# Altium schematic symbol library kmilo17pet-TI_BattMgmt.SchLib: 950 symbols (part 51 of 60)
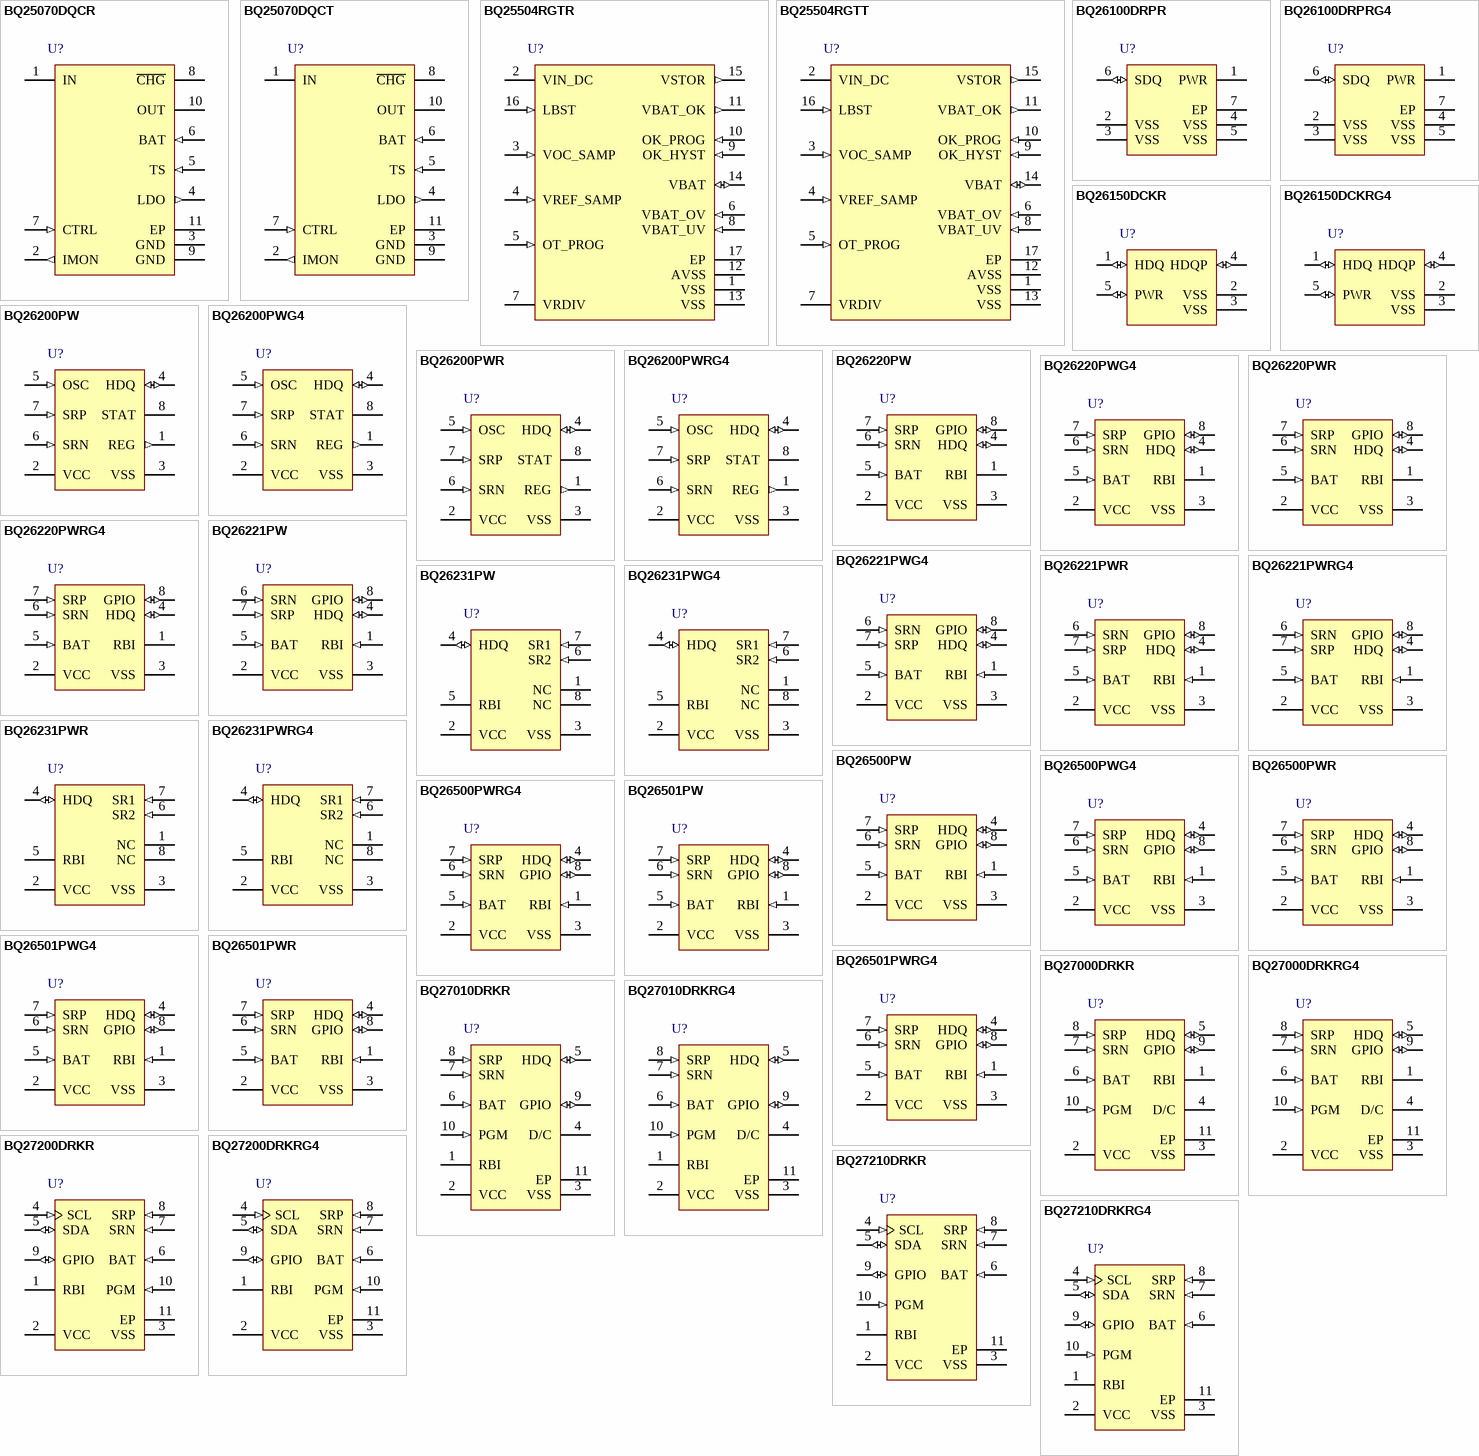
[diagram p84: symbols BQ25070DQCR to BQ27210DRKRG4]

## BQ25070DQCT
designator U?
1 A, Single Cell, Linear Charger for LiFePO4 Applications, -40 to 85 degC, 10-pin WSON (DQC), Green (RoHS & no Sb/Br); PartNumber: BQ25070DQCT; Manufacturer: Texas Instruments; Lead Acid: N; SubFamily: Battery Charge Management; DatasheetVersion: SLUSA66; PackageVersion: revA, Jul-2008; PackageReference: DQC10-2400X840TP; PackageDescription: 10-Pin Plastic Small Outline No-Lead, 2 x 3 x 0.8 mm Body, 0.5 mm Pitch, Exposed Pad; Supplier 1: Digi-Key; Supplier Part Number 1: 296-29180-2-ND; Supplier Part Number 3: 296-29180-6-ND; Eco-Plan: Green (RoHS & no Sb/Br); Li-Ion: N; Li-Polymer: N; NiCd: N; NiMH: N; Over Voltage Protection: N; Mounting Technology: Surface Mount; ComponentLink1Description: Datasheet; ComponentLink1URL: http://www.ti.com/general/docs/lit/getliterature.tsp?genericPartNumber=BQ25070&fileType=pdf
footprint DQC10-2400X840TP (SON, 10-Leads, Body 2x3mm, Pitch 0.5mm, Thermal Pad 2.4x0.84mm)
pins: 1 IN (power) "Input power supply. IN is connected to the external DC supply (AC adapter or USB port). Bypass IN to GND with at least a 0.1uF ceramic capacitor.", 2 IMON (out) "Current monitoring output. Connect a 1kO resistor from IMON to GND to monitor the input current. The voltage at IMON ranges from 0V to 1V which corresponds to an input current from 0A to 1A.", 3 GND (power) "Ground terminal. Connect to the thermal pad and the ground plane of the circuit.", 4 LDO (out) "LDO output. LDO is regulated to 4.9V and drives up to 50mA. Bypass LDO to GND with a 0.1uF ceramic capacitor. LDO is enabled when VUVLO < VIN < VOVP.", 5 TS (in) "Battery pack NTC monitoring input. Connect a resistor divider from LDO to GND with TS connected to the center tap to set the charge temperature window. The battery pack NTC is connected in parallel with the bottom resistor (See Datasheet)", 6 BAT (in) "Battery connection output. BAT is the sense input for the battery. Connect BAT and OUT to the battery and bypass to GND with a 1uF ceramic capacitor.", 7 CTRL (in) "Single-input interface Input. Drive CTRL with pulses to enable/disable the device, enable/disable VIN-DPM, and select current limits. See the interface section for details on using the CTRL interface.", 8 ~{CHG} (hiz) "Charge status indicator open-drain output. C\H\G\ is pulled low while the device is charging the battery. C\H\G\ goes high impedance when the battery is fully charged.", 9 GND (power) "Ground terminal. Connect to the thermal pad and the ground plane of the circuit.", 10 OUT (power) "System output connection. Connect OUT and BAT together. Bypass the OUT and BAT connection to GND with a 1uF ceramic capacitor.", 11 EP (power) "There is an internal electrical connection between the exposed thermal pad and the GND pin of the device. The thermal pad must be connected to the same potential as the GND pin on the printed circuit board. Do not use the (See Datasheet)"

## BQ25504RGTR
designator U?
Ultra Low Power Boost Converter with Battery Management for Energy Harvester App, 0.13 V, -40 to 85 degC, 16-pin QFN (RGT), Green (RoHS & no Sb/Br); PartNumber: BQ25504RGTR; Manufacturer: Texas Instruments; Lead Acid: N; SubFamily: Battery Charge Management; Vin(Min)(V): 0.13; DatasheetVersion: SLUSAH0; PackageVersion: revH, Oct-2011; PackageReference: RGT16-1700X1700TP; PackageDescription: 16-Pin Plastic Quad Flat No-Lead, 3 x 3 mm Body, 0.5 mm Pitch, 1.7 x 1.7 mm Exposed Pad; Supplier 1: Digi-Key; Supplier Part Number 1: BQ25504RGTR-ND; Supplier Part Number 3: 595-BQ25504RGTR; Eco-Plan: Green (RoHS & no Sb/Br); Li-Ion: N; Li-Polymer: N; NiCd: N; NiMH: N; Over Voltage Protection: N; Mounting Technology: Surface Mount; Code_JEDEC: MO-220; ComponentLink1Description: Datasheet; ComponentLink1URL: http://www.ti.com/general/docs/lit/getliterature.tsp?genericPartNumber=BQ25504&fileType=pdf
footprint RGT16-1700X1700TP (QFN, 16-Leads, Body 3x3mm, Pitch 0.5mm, Thermal Pad 1.7x1.7mm, TI Recommended)
pins: 1 VSS (power) "Input General ground connection for the device", 2 VIN_DC (power) "DC voltage input from energy harvesters", 3 VOC_SAMP (in) "Sampling pin for MPPT network. To disable MPPT, connect to VSTOR", 4 VREF_SAMP (in) "Switched node for holding the reference set by resistors on VOC_SAMP for MPPT. When MPPT is disabled, input for reference voltage", 5 OT_PROG (in) "Digital Programming input for overtemperature threshold", 6 VBAT_OV (in) "Resistor divider input for over voltage threshold", 7 VRDIV (power) "Resistor divider biasing voltage.", 8 VBAT_UV (in) "Resistor divider input for under voltage threshold", 9 OK_HYST (in) "Resistor divider input for VBAT_OK hysteresis threshold", 10 OK_PROG (in) "Resistor divider input for VBAT_OK threshold", 11 VBAT_OK (out) "Digital battery good indicator referenced to VSTOR pin", 12 AVSS (power) "Signal ground connection for the device", 13 VSS (power) "General ground connection for the device", 14 VBAT (io) "Connection for storage elements", 15 VSTOR (out) "Connection for the system load, output of the boost converter", 16 LBST (in) "Inductor connection for the boost converter switching node", 17 EP "Exposed Thermal Pad"

## BQ25504RGTT
designator U?
Ultra Low Power Boost Converter with Battery Management for Energy Harvester App, 0.13 V, -40 to 85 degC, 16-pin QFN (RGT), Green (RoHS & no Sb/Br); PartNumber: BQ25504RGTT; Manufacturer: Texas Instruments; Lead Acid: N; SubFamily: Battery Charge Management; Vin(Min)(V): 0.13; DatasheetVersion: SLUSAH0; PackageVersion: revH, Oct-2011; PackageReference: RGT16-1700X1700TP; PackageDescription: 16-Pin Plastic Quad Flat No-Lead, 3 x 3 mm Body, 0.5 mm Pitch, 1.7 x 1.7 mm Exposed Pad; Supplier 1: Digi-Key; Supplier Part Number 1: 296-29741-2-ND; Supplier Part Number 3: 296-29741-6-ND; Eco-Plan: Green (RoHS & no Sb/Br); Li-Ion: N; Li-Polymer: N; NiCd: N; NiMH: N; Over Voltage Protection: N; Mounting Technology: Surface Mount; Code_JEDEC: MO-220; ComponentLink1Description: Datasheet; ComponentLink1URL: http://www.ti.com/general/docs/lit/getliterature.tsp?genericPartNumber=BQ25504&fileType=pdf
footprint RGT16-1700X1700TP (QFN, 16-Leads, Body 3x3mm, Pitch 0.5mm, Thermal Pad 1.7x1.7mm, TI Recommended)
footprint RGT16-1700X1700TP - UPDATE (QFN, 16-Leads, Body 3x3mm, Pitch 0.5mm, Thermal Pad 1.7x1.7mm, TI Recommended)
pins: 1 VSS (power) "Input General ground connection for the device", 2 VIN_DC (power) "DC voltage input from energy harvesters", 3 VOC_SAMP (in) "Sampling pin for MPPT network. To disable MPPT, connect to VSTOR", 4 VREF_SAMP (in) "Switched node for holding the reference set by resistors on VOC_SAMP for MPPT. When MPPT is disabled, input for reference voltage", 5 OT_PROG (in) "Digital Programming input for overtemperature threshold", 6 VBAT_OV (in) "Resistor divider input for over voltage threshold", 7 VRDIV (power) "Resistor divider biasing voltage.", 8 VBAT_UV (in) "Resistor divider input for under voltage threshold", 9 OK_HYST (in) "Resistor divider input for VBAT_OK hysteresis threshold", 10 OK_PROG (in) "Resistor divider input for VBAT_OK threshold", 11 VBAT_OK (out) "Digital battery good indicator referenced to VSTOR pin", 12 AVSS (power) "Signal ground connection for the device", 13 VSS (power) "General ground connection for the device", 14 VBAT (io) "Connection for storage elements", 15 VSTOR (out) "Connection for the system load, output of the boost converter", 16 LBST (in) "Inductor connection for the boost converter switching node", 17 EP "Exposed Thermal Pad"

## BQ26100DRPR
designator U?
SHA-1 / HMAC Based Security & Authentication IC with SDQ Interface, 2.5 V, -40 to 85 degC, 6-pin VSON (DRP), Green (RoHS & no Sb/Br); PartNumber: BQ26100DRPR; Manufacturer: Texas Instruments; Lead Acid: N; SubFamily: Battery Authentication; Vin(Min)(V): 2.5; DatasheetVersion: SLUS696A; PackageVersion: revE, Jun-2011; PackageReference: DRP6; PackageDescription: 6-Pin Plastic Small Outline No-Lead, 3 x 3 x 1 mm Body, 0.95 mm Pitch, Exposed Pad; Supplier 1: Digi-Key; Supplier Part Number 1: 296-20633-2-ND; Supplier Part Number 3: 296-20633-6-ND; Eco-Plan: Green (RoHS & no Sb/Br); Li-Ion: N; Li-Polymer: N; NiCd: N; NiMH: N; Over Voltage Protection: N; Mounting Technology: Surface Mount; ComponentLink1Description: Datasheet; ComponentLink1URL: http://www.ti.com/general/docs/lit/getliterature.tsp?genericPartNumber=BQ26100&fileType=pdf
footprint DRP6 (SON, 6-Leads, Body 3x3mm, Pitch 0.95mm, Thermal Pad 2.3x1.6mm)
pins: 1 PWR (power) "Power capacitor connection", 2 VSS (power) "Ground", 3 VSS (power) "Ground", 4 VSS (power) "Ground", 5 VSS (power) "Ground", 6 SDQ (io) "Single wire SDQ interface to host", 7 EP "Exposed pad"

## BQ26100DRPRG4
designator U?
SHA-1 / HMAC Based Security & Authentication IC with SDQ Interface, 2.5 V, -40 to 85 degC, 6-pin VSON (DRP), Green (RoHS & no Sb/Br); PartNumber: BQ26100DRPRG4; Manufacturer: Texas Instruments; Lead Acid: N; SubFamily: Battery Authentication; Vin(Min)(V): 2.5; DatasheetVersion: SLUS696A; PackageVersion: revE, Jun-2011; PackageReference: DRP6; PackageDescription: 6-Pin Plastic Small Outline No-Lead, 3 x 3 x 1 mm Body, 0.95 mm Pitch, Exposed Pad; Supplier 1: Digi-Key; Supplier Part Number 1: BQ26100DRPRG4-ND; Supplier Part Number 3: 595-BQ26100DRPRG4; Eco-Plan: Green (RoHS & no Sb/Br); Li-Ion: N; Li-Polymer: N; NiCd: N; NiMH: N; Over Voltage Protection: N; Mounting Technology: Surface Mount; ComponentLink1Description: Datasheet; ComponentLink1URL: http://www.ti.com/general/docs/lit/getliterature.tsp?genericPartNumber=BQ26100&fileType=pdf
footprint DRP6 (SON, 6-Leads, Body 3x3mm, Pitch 0.95mm, Thermal Pad 2.3x1.6mm)
pins: 1 PWR (power) "Power capacitor connection", 2 VSS (power) "Ground", 3 VSS (power) "Ground", 4 VSS (power) "Ground", 5 VSS (power) "Ground", 6 SDQ (io) "Single wire SDQ interface to host", 7 EP "Exposed pad"

## BQ26150DCKR
designator U?
Battery Pack Security & Authentication IC For Portable Applications (bqSECURE), 2.5 V, -20 to 70 degC, 5-pin SC70 (DCK), Green (RoHS & no Sb/Br); PartNumber: BQ26150DCKR; Manufacturer: Texas Instruments; Lead Acid: N; SubFamily: Battery Authentication; Vin(Min)(V): 2.5; DatasheetVersion: SLUS641B; PackageVersion: revG, Jan-2007; PackageReference: DCK5; PackageDescription: 5-Pin Plastic Small-Outline Package, 2 x 1.3 mm Body, 0.65 mm Pitch, 2.1 mm Lead Span; Supplier 1: Digi-Key; Supplier Part Number 1: 296-18601-2-ND; Supplier Part Number 3: 296-18601-6-ND; Eco-Plan: Green (RoHS & no Sb/Br); Li-Ion: N; Li-Polymer: N; NiCd: N; NiMH: N; Over Voltage Protection: N; Mounting Technology: Surface Mount; Code_JEDEC: MO-203-AA; ComponentLink1Description: Datasheet; ComponentLink1URL: http://www.ti.com/general/docs/lit/getliterature.tsp?genericPartNumber=BQ26150&fileType=pdf
footprint DCK5_N (SOT353, 5-Leads, Body 2x1.3mm, Pitch 0.65mm, Lead Span 2.1mm, IPC Medium Density)
footprint DCK5_L (SOT353, 5-Leads, Body 2x1.3mm, Pitch 0.65mm, Lead Span 2.1mm, IPC High Density)
footprint DCK5_M (SOT353, 5-Leads, Body 2x1.3mm, Pitch 0.65mm, Lead Span 2.1mm, IPC Low Density)
pins: 1 HDQ (io) "Single-wire HDQ interface to host", 2 VSS (power) "Ground", 3 VSS (power) "Ground", 4 HDQP (io) "Single-wire HDQ interface to 2nd HDQ device", 5 PWR (io) "Power capacitor"

## BQ26150DCKRG4
designator U?
Battery Pack Security & Authentication IC For Portable Applications (bqSECURE), 2.5 V, -20 to 70 degC, 5-pin SC70 (DCK), Green (RoHS & no Sb/Br); PartNumber: BQ26150DCKRG4; Manufacturer: Texas Instruments; Lead Acid: N; SubFamily: Battery Charge Management; Vin(Min)(V): 2.5; DatasheetVersion: SLUS641B; PackageVersion: revG, Jan-2007; PackageReference: DCK5; PackageDescription: 5-Pin Plastic Small-Outline Package, 2 x 1.3 mm Body, 0.65 mm Pitch, 2.1 mm Lead Span; Supplier 1: Digi-Key; Supplier Part Number 1: BQ26150DCKRG4-ND; Supplier Part Number 3: 595-BQ26150DCKRG4; Eco-Plan: Green (RoHS & no Sb/Br); Li-Ion: N; Li-Polymer: N; NiCd: N; NiMH: N; Over Voltage Protection: N; Mounting Technology: Surface Mount; Code_JEDEC: MO-203-AA; ComponentLink1Description: Datasheet; ComponentLink1URL: http://www.ti.com/general/docs/lit/getliterature.tsp?genericPartNumber=BQ26150&fileType=pdf
footprint DCK5_N (SOT353, 5-Leads, Body 2x1.3mm, Pitch 0.65mm, Lead Span 2.1mm, IPC Medium Density)
footprint DCK5_L (SOT353, 5-Leads, Body 2x1.3mm, Pitch 0.65mm, Lead Span 2.1mm, IPC High Density)
footprint DCK5_M (SOT353, 5-Leads, Body 2x1.3mm, Pitch 0.65mm, Lead Span 2.1mm, IPC Low Density)
pins: 1 HDQ (io) "Single-wire HDQ interface to host", 2 VSS (power) "Ground", 3 VSS (power) "Ground", 4 HDQP (io) "Single-wire HDQ interface to 2nd HDQ device", 5 PWR (io) "Power capacitor"

## BQ26200PW
designator U?
FLASH-Based Precision Multi-Chemistry Charge / Discharge Counter with 1-Wire I / F (HDQ), 0 to 70 degC, 8-pin TSSOP (PW), Green (RoHS & no Sb/Br); PartNumber: BQ26200PW; Manufacturer: Texas Instruments; Lead Acid: Y; Over Voltage Protection: N; SubFamily: Battery Fuel Gauge; DatasheetVersion: SLUS509A; PackageVersion: revG, Feb-2011; PackageReference: PW8; PackageDescription: 8-Pin Plastic Thin Small Outline Package 3 x 4.4 mm Body ,0.65 mm Pitch; Supplier 1: Digi-Key; Supplier Part Number 1: 296-12626-5-ND; Supplier Part Number 3: 595-BQ26200PW; Eco-Plan: Green (RoHS & no Sb/Br); Li-Ion: Y; Li-Polymer: Y; NiCd: Y; NiMH: Y; Mounting Technology: Surface Mount; Code_JEDEC: MO-153; ComponentLink1Description: Datasheet; ComponentLink1URL: http://www.ti.com/general/docs/lit/getliterature.tsp?genericPartNumber=BQ26200&fileType=pdf
footprint PW8_N (TSOP, 8-Leads, Body 3x4.4mm, Pitch 0.65mm, IPC Medium Density)
footprint PW8_L (TSOP, 8-Leads, Body 3x4.4mm, Pitch 0.65mm, IPC High Density)
footprint PW8_M (TSOP, 8-Leads, Body 3x4.4mm, Pitch 0.65mm, IPC Low Density)
pins: 1 REG (out) "Regulator output", 2 VCC (power) "Supply voltage", 3 VSS (power) "Ground", 4 HDQ (io) "Single-wire HDQ interface", 5 OSC (in) "Time base adjust for the oscillator", 6 SRN (in) "Current sense input 2", 7 SRP (in) "Current sense input 1", 8 STAT (oc) "Open-drain status output"

## BQ26200PWG4
designator U?
FLASH-Based Precision Multi-Chemistry Charge / Discharge Counter with 1-Wire I / F (HDQ), 0 to 70 degC, 8-pin TSSOP (PW), Green (RoHS & no Sb/Br); PartNumber: BQ26200PWG4; Manufacturer: Texas Instruments; Lead Acid: Y; Over Voltage Protection: N; SubFamily: Battery Fuel Gauge; DatasheetVersion: SLUS509A; PackageVersion: revG, Feb-2011; PackageReference: PW8; PackageDescription: 8-Pin Plastic Thin Small Outline Package 3 x 4.4 mm Body ,0.65 mm Pitch; Supplier 1: Digi-Key; Supplier Part Number 1: BQ26200PWG4-ND; Supplier Part Number 3: 595-BQ26200PWG4; Eco-Plan: Green (RoHS & no Sb/Br); Li-Ion: Y; Li-Polymer: Y; NiCd: Y; NiMH: Y; Mounting Technology: Surface Mount; Code_JEDEC: MO-153; ComponentLink1Description: Datasheet; ComponentLink1URL: http://www.ti.com/general/docs/lit/getliterature.tsp?genericPartNumber=BQ26200&fileType=pdf
footprint PW8_N (TSOP, 8-Leads, Body 3x4.4mm, Pitch 0.65mm, IPC Medium Density)
footprint PW8_L (TSOP, 8-Leads, Body 3x4.4mm, Pitch 0.65mm, IPC High Density)
footprint PW8_M (TSOP, 8-Leads, Body 3x4.4mm, Pitch 0.65mm, IPC Low Density)
pins: 1 REG (out) "Regulator output", 2 VCC (power) "Supply voltage", 3 VSS (power) "Ground", 4 HDQ (io) "Single-wire HDQ interface", 5 OSC (in) "Time base adjust for the oscillator", 6 SRN (in) "Current sense input 2", 7 SRP (in) "Current sense input 1", 8 STAT (oc) "Open-drain status output"

## BQ26200PWR
designator U?
FLASH-Based Precision Multi-Chemistry Charge / Discharge Counter with 1-Wire I / F (HDQ), 0 to 70 degC, 8-pin TSSOP (PW), Green (RoHS & no Sb/Br); PartNumber: BQ26200PWR; Manufacturer: Texas Instruments; Lead Acid: Y; Over Voltage Protection: N; SubFamily: Battery Fuel Gauge; DatasheetVersion: SLUS509A; PackageVersion: revG, Feb-2011; PackageReference: PW8; PackageDescription: 8-Pin Plastic Thin Small Outline Package 3 x 4.4 mm Body ,0.65 mm Pitch; Supplier 1: Digi-Key; Supplier Part Number 1: BQ26200PWR-ND; Supplier Part Number 3: 595-BQ26200PWR; Eco-Plan: Green (RoHS & no Sb/Br); Li-Ion: Y; Li-Polymer: Y; NiCd: Y; NiMH: Y; Mounting Technology: Surface Mount; Code_JEDEC: MO-153; ComponentLink1Description: Datasheet; ComponentLink1URL: http://www.ti.com/general/docs/lit/getliterature.tsp?genericPartNumber=BQ26200&fileType=pdf
footprint PW8_N (TSOP, 8-Leads, Body 3x4.4mm, Pitch 0.65mm, IPC Medium Density)
footprint PW8_L (TSOP, 8-Leads, Body 3x4.4mm, Pitch 0.65mm, IPC High Density)
footprint PW8_M (TSOP, 8-Leads, Body 3x4.4mm, Pitch 0.65mm, IPC Low Density)
pins: 1 REG (out) "Regulator output", 2 VCC (power) "Supply voltage", 3 VSS (power) "Ground", 4 HDQ (io) "Single-wire HDQ interface", 5 OSC (in) "Time base adjust for the oscillator", 6 SRN (in) "Current sense input 2", 7 SRP (in) "Current sense input 1", 8 STAT (oc) "Open-drain status output"

## BQ26200PWRG4
designator U?
FLASH-Based Precision Multi-Chemistry Charge / Discharge Counter with 1-Wire I / F (HDQ), 0 to 70 degC, 8-pin TSSOP (PW), Green (RoHS & no Sb/Br); PartNumber: BQ26200PWRG4; Manufacturer: Texas Instruments; Lead Acid: Y; Over Voltage Protection: N; SubFamily: Battery Fuel Gauge; DatasheetVersion: SLUS509A; PackageVersion: revG, Feb-2011; PackageReference: PW8; PackageDescription: 8-Pin Plastic Thin Small Outline Package 3 x 4.4 mm Body ,0.65 mm Pitch; Supplier 1: Digi-Key; Supplier Part Number 1: BQ26200PWRG4-ND; Supplier Part Number 3: 595-BQ26200PWRG4; Eco-Plan: Green (RoHS & no Sb/Br); Li-Ion: Y; Li-Polymer: Y; NiCd: Y; NiMH: Y; Mounting Technology: Surface Mount; Code_JEDEC: MO-153; ComponentLink1Description: Datasheet; ComponentLink1URL: http://www.ti.com/general/docs/lit/getliterature.tsp?genericPartNumber=BQ26200&fileType=pdf
footprint PW8_N (TSOP, 8-Leads, Body 3x4.4mm, Pitch 0.65mm, IPC Medium Density)
footprint PW8_L (TSOP, 8-Leads, Body 3x4.4mm, Pitch 0.65mm, IPC High Density)
footprint PW8_M (TSOP, 8-Leads, Body 3x4.4mm, Pitch 0.65mm, IPC Low Density)
pins: 1 REG (out) "Regulator output", 2 VCC (power) "Supply voltage", 3 VSS (power) "Ground", 4 HDQ (io) "Single-wire HDQ interface", 5 OSC (in) "Time base adjust for the oscillator", 6 SRN (in) "Current sense input 2", 7 SRP (in) "Current sense input 1", 8 STAT (oc) "Open-drain status output"

## BQ26220PW
designator U?
FLASH-Based Precision Multi-Chemistry Charge / Discharge Counter with Voltage Measurement and HDQ Comm, -20 to 70 degC, 8-pin TSSOP (PW), Green (RoHS & no Sb/Br); PartNumber: BQ26220PW; Manufacturer: Texas Instruments; Lead Acid: Y; Over Voltage Protection: N; SubFamily: Battery Fuel Gauge; DatasheetVersion: SLUS521B; PackageVersion: revG, Feb-2011; PackageReference: PW8; PackageDescription: 8-Pin Plastic Thin Small Outline Package 3 x 4.4 mm Body ,0.65 mm Pitch; Supplier 1: Digi-Key; Supplier Part Number 1: 296-14004-5-ND; Supplier Part Number 3: 595-BQ26220PW; Eco-Plan: Green (RoHS & no Sb/Br); Li-Ion: Y; Li-Polymer: Y; NiCd: Y; NiMH: Y; Mounting Technology: Surface Mount; Code_JEDEC: MO-153; ComponentLink1Description: Datasheet; ComponentLink1URL: http://www.ti.com/general/docs/lit/getliterature.tsp?genericPartNumber=BQ26220&fileType=pdf
footprint PW8_N (TSOP, 8-Leads, Body 3x4.4mm, Pitch 0.65mm, IPC Medium Density)
footprint PW8_L (TSOP, 8-Leads, Body 3x4.4mm, Pitch 0.65mm, IPC High Density)
footprint PW8_M (TSOP, 8-Leads, Body 3x4.4mm, Pitch 0.65mm, IPC Low Density)
pins: 1 RBI (power) "Register backup input. The RBI input pin is used with a storage capacitor or external supply to provide backup potential to the internal RAM and registers while VCC is < V(POR).", 2 VCC (power) "Supply voltage", 3 VSS (power) "Ground", 4 HDQ (io) "Single-wire HDQ interface. HDQ is a single-wire serial communications interface port. This bidirectional input/output communicates the register information to the host.", 5 BAT (in) "Battery voltage sense input. This pin is used for sensing and measuring the battery voltage.", 6 SRN (in) "Current sense input 2. The bq26220 interprets charge and discharge activity by monitoring and integrating the voltage drop, VSR, across pins SRP and SRN. The SRN input connects to the sense resistor and the negative terminal (See Datasheet)", 7 SRP (in) "Current sense input 1. The bq26220 interprets charge and discharge activity by monitoring and integrating the voltage drop, VSR, across pins SRP and SRN. The SRP input connects to the sense resistor and the negative terminal (See Datasheet)", 8 GPIO (io) "General-purpose input/output pin. GPIO is a general-purpose programmable input or output port whose state is controlled via the HDQ serial communications interface."

## BQ26220PWG4
designator U?
FLASH-Based Precision Multi-Chemistry Charge / Discharge Counter with Voltage Measurement and HDQ Comm, -20 to 70 degC, 8-pin TSSOP (PW), Green (RoHS & no Sb/Br); PartNumber: BQ26220PWG4; Manufacturer: Texas Instruments; Lead Acid: Y; Over Voltage Protection: N; SubFamily: Battery Fuel Gauge; DatasheetVersion: SLUS521B; PackageVersion: revG, Feb-2011; PackageReference: PW8; PackageDescription: 8-Pin Plastic Thin Small Outline Package 3 x 4.4 mm Body ,0.65 mm Pitch; Supplier 1: Digi-Key; Supplier Part Number 1: BQ26220PWG4-ND; Supplier Part Number 3: 595-BQ26220PWG4; Eco-Plan: Green (RoHS & no Sb/Br); Li-Ion: Y; Li-Polymer: Y; NiCd: Y; NiMH: Y; Mounting Technology: Surface Mount; Code_JEDEC: MO-153; ComponentLink1Description: Datasheet; ComponentLink1URL: http://www.ti.com/general/docs/lit/getliterature.tsp?genericPartNumber=BQ26220&fileType=pdf
footprint PW8_N (TSOP, 8-Leads, Body 3x4.4mm, Pitch 0.65mm, IPC Medium Density)
footprint PW8_L (TSOP, 8-Leads, Body 3x4.4mm, Pitch 0.65mm, IPC High Density)
footprint PW8_M (TSOP, 8-Leads, Body 3x4.4mm, Pitch 0.65mm, IPC Low Density)
pins: 1 RBI (power) "Register backup input. The RBI input pin is used with a storage capacitor or external supply to provide backup potential to the internal RAM and registers while VCC is < V(POR).", 2 VCC (power) "Supply voltage", 3 VSS (power) "Ground", 4 HDQ (io) "Single-wire HDQ interface. HDQ is a single-wire serial communications interface port. This bidirectional input/output communicates the register information to the host.", 5 BAT (in) "Battery voltage sense input. This pin is used for sensing and measuring the battery voltage.", 6 SRN (in) "Current sense input 2. The bq26220 interprets charge and discharge activity by monitoring and integrating the voltage drop, VSR, across pins SRP and SRN. The SRN input connects to the sense resistor and the negative terminal (See Datasheet)", 7 SRP (in) "Current sense input 1. The bq26220 interprets charge and discharge activity by monitoring and integrating the voltage drop, VSR, across pins SRP and SRN. The SRP input connects to the sense resistor and the negative terminal (See Datasheet)", 8 GPIO (io) "General-purpose input/output pin. GPIO is a general-purpose programmable input or output port whose state is controlled via the HDQ serial communications interface."

## BQ26220PWR
designator U?
FLASH-Based Precision Multi-Chemistry Charge / Discharge Counter with Voltage Measurement and HDQ Comm, -20 to 70 degC, 8-pin TSSOP (PW), Green (RoHS & no Sb/Br); PartNumber: BQ26220PWR; Manufacturer: Texas Instruments; Lead Acid: Y; Over Voltage Protection: N; SubFamily: Battery Fuel Gauge; DatasheetVersion: SLUS521B; PackageVersion: revG, Feb-2011; PackageReference: PW8; PackageDescription: 8-Pin Plastic Thin Small Outline Package 3 x 4.4 mm Body ,0.65 mm Pitch; Supplier 1: Digi-Key; Supplier Part Number 1: BQ26220PWR-ND; Supplier Part Number 3: 595-BQ26220PWR; Eco-Plan: Green (RoHS & no Sb/Br); Li-Ion: Y; Li-Polymer: Y; NiCd: Y; NiMH: Y; Mounting Technology: Surface Mount; Code_JEDEC: MO-153; ComponentLink1Description: Datasheet; ComponentLink1URL: http://www.ti.com/general/docs/lit/getliterature.tsp?genericPartNumber=BQ26220&fileType=pdf
footprint PW8_N (TSOP, 8-Leads, Body 3x4.4mm, Pitch 0.65mm, IPC Medium Density)
footprint PW8_L (TSOP, 8-Leads, Body 3x4.4mm, Pitch 0.65mm, IPC High Density)
footprint PW8_M (TSOP, 8-Leads, Body 3x4.4mm, Pitch 0.65mm, IPC Low Density)
pins: 1 RBI (power) "Register backup input. The RBI input pin is used with a storage capacitor or external supply to provide backup potential to the internal RAM and registers while VCC is < V(POR).", 2 VCC (power) "Supply voltage", 3 VSS (power) "Ground", 4 HDQ (io) "Single-wire HDQ interface. HDQ is a single-wire serial communications interface port. This bidirectional input/output communicates the register information to the host.", 5 BAT (in) "Battery voltage sense input. This pin is used for sensing and measuring the battery voltage.", 6 SRN (in) "Current sense input 2. The bq26220 interprets charge and discharge activity by monitoring and integrating the voltage drop, VSR, across pins SRP and SRN. The SRN input connects to the sense resistor and the negative terminal (See Datasheet)", 7 SRP (in) "Current sense input 1. The bq26220 interprets charge and discharge activity by monitoring and integrating the voltage drop, VSR, across pins SRP and SRN. The SRP input connects to the sense resistor and the negative terminal (See Datasheet)", 8 GPIO (io) "General-purpose input/output pin. GPIO is a general-purpose programmable input or output port whose state is controlled via the HDQ serial communications interface."

## BQ26220PWRG4
designator U?
FLASH-Based Precision Multi-Chemistry Charge / Discharge Counter with Voltage Measurement and HDQ Comm, -20 to 70 degC, 8-pin TSSOP (PW), Green (RoHS & no Sb/Br); PartNumber: BQ26220PWRG4; Manufacturer: Texas Instruments; Lead Acid: Y; Over Voltage Protection: N; SubFamily: Battery Fuel Gauge; DatasheetVersion: SLUS521B; PackageVersion: revG, Feb-2011; PackageReference: PW8; PackageDescription: 8-Pin Plastic Thin Small Outline Package 3 x 4.4 mm Body ,0.65 mm Pitch; Supplier 1: Digi-Key; Supplier Part Number 1: BQ26220PWRG4-ND; Supplier Part Number 3: 595-BQ26220PWRG4; Eco-Plan: Green (RoHS & no Sb/Br); Li-Ion: Y; Li-Polymer: Y; NiCd: Y; NiMH: Y; Mounting Technology: Surface Mount; Code_JEDEC: MO-153; ComponentLink1Description: Datasheet; ComponentLink1URL: http://www.ti.com/general/docs/lit/getliterature.tsp?genericPartNumber=BQ26220&fileType=pdf
footprint PW8_N (TSOP, 8-Leads, Body 3x4.4mm, Pitch 0.65mm, IPC Medium Density)
footprint PW8_L (TSOP, 8-Leads, Body 3x4.4mm, Pitch 0.65mm, IPC High Density)
footprint PW8_M (TSOP, 8-Leads, Body 3x4.4mm, Pitch 0.65mm, IPC Low Density)
pins: 1 RBI (power) "Register backup input. The RBI input pin is used with a storage capacitor or external supply to provide backup potential to the internal RAM and registers while VCC is < V(POR).", 2 VCC (power) "Supply voltage", 3 VSS (power) "Ground", 4 HDQ (io) "Single-wire HDQ interface. HDQ is a single-wire serial communications interface port. This bidirectional input/output communicates the register information to the host.", 5 BAT (in) "Battery voltage sense input. This pin is used for sensing and measuring the battery voltage.", 6 SRN (in) "Current sense input 2. The bq26220 interprets charge and discharge activity by monitoring and integrating the voltage drop, VSR, across pins SRP and SRN. The SRN input connects to the sense resistor and the negative terminal (See Datasheet)", 7 SRP (in) "Current sense input 1. The bq26220 interprets charge and discharge activity by monitoring and integrating the voltage drop, VSR, across pins SRP and SRN. The SRP input connects to the sense resistor and the negative terminal (See Datasheet)", 8 GPIO (io) "General-purpose input/output pin. GPIO is a general-purpose programmable input or output port whose state is controlled via the HDQ serial communications interface."

## BQ26221PW
designator U?
FLASH-Based Precision Multi-Chemistry Charge / Discharge Counter with Voltage Measurement & HDQ / OMAP Comm, -20 to 70 degC, 8-pin TSSOP (PW), Green (RoHS & no Sb/Br); PartNumber: BQ26221PW; Manufacturer: Texas Instruments; Lead Acid: Y; Over Voltage Protection: N; SubFamily: Battery Fuel Gauge; DatasheetVersion: SLUS607; PackageVersion: revG, Feb-2011; PackageReference: PW8; PackageDescription: 8-Pin Plastic Thin Small Outline Package 3 x 4.4 mm Body ,0.65 mm Pitch; Supplier 1: Digi-Key; Supplier Part Number 1: 296-32837-5-ND; Supplier Part Number 3: 33P6587; Eco-Plan: Green (RoHS & no Sb/Br); Li-Ion: Y; Li-Polymer: Y; NiCd: Y; NiMH: Y; Mounting Technology: Surface Mount; Code_JEDEC: MO-153; ComponentLink1Description: Datasheet; ComponentLink1URL: http://www.ti.com/general/docs/lit/getliterature.tsp?genericPartNumber=BQ26221&fileType=pdf
footprint PW8_N (TSOP, 8-Leads, Body 3x4.4mm, Pitch 0.65mm, IPC Medium Density)
footprint PW8_L (TSOP, 8-Leads, Body 3x4.4mm, Pitch 0.65mm, IPC High Density)
footprint PW8_M (TSOP, 8-Leads, Body 3x4.4mm, Pitch 0.65mm, IPC Low Density)
pins: 1 RBI (in) "Register backup input. The RBI input pin is used with a storage capacitor or external supply to provide backup potential to the internal RAM and registers while VCC is < V(POR).", 2 VCC (power) "Supply voltage", 3 VSS (power) "Ground", 4 HDQ (io) "Single-wire HDQ interface. HDQ is a single-wire serial communications interface port. This bidirectional input/output communicates the register information to the host.", 5 BAT (in) "Battery voltage sense input. This pin is used for sensing and measuring the battery voltage.", 6 SRN (in) "Current sense input 2. The bq26221 interprets charge and discharge activity by monitoring and integrating the voltage drop, VSR, across pins SRP and SRN. The SRN input connects to the sense resistor and the negative terminal (See Datasheet)", 7 SRP (in) "Current sense input 1. The bq26221 interprets charge and discharge activity by monitoring and integrating the voltage drop, VSR, across pins SRP and SRN. The SRP input connects to the sense resistor and the negative terminal (See Datasheet)", 8 GPIO (io) "General-purpose input/output pin. GPIO is a general-purpose programmable input or output port whose state is controlled via the HDQ serial communications interface."

## BQ26221PWG4
designator U?
FLASH-Based Precision Multi-Chemistry Charge / Discharge Counter with Voltage Measurement & HDQ / OMAP Comm, -20 to 70 degC, 8-pin TSSOP (PW), Green (RoHS & no Sb/Br); PartNumber: BQ26221PWG4; Manufacturer: Texas Instruments; Lead Acid: Y; Over Voltage Protection: N; SubFamily: Battery Fuel Gauge; DatasheetVersion: SLUS607; PackageVersion: revG, Feb-2011; PackageReference: PW8; PackageDescription: 8-Pin Plastic Thin Small Outline Package 3 x 4.4 mm Body ,0.65 mm Pitch; Supplier 1: Digi-Key; Supplier Part Number 1: BQ26221PWG4-ND; Supplier Part Number 3: 595-BQ26221PWG4; Eco-Plan: Green (RoHS & no Sb/Br); Li-Ion: Y; Li-Polymer: Y; NiCd: Y; NiMH: Y; Mounting Technology: Surface Mount; Code_JEDEC: MO-153; ComponentLink1Description: Datasheet; ComponentLink1URL: http://www.ti.com/general/docs/lit/getliterature.tsp?genericPartNumber=BQ26221&fileType=pdf
footprint PW8_N (TSOP, 8-Leads, Body 3x4.4mm, Pitch 0.65mm, IPC Medium Density)
footprint PW8_L (TSOP, 8-Leads, Body 3x4.4mm, Pitch 0.65mm, IPC High Density)
footprint PW8_M (TSOP, 8-Leads, Body 3x4.4mm, Pitch 0.65mm, IPC Low Density)
pins: 1 RBI (in) "Register backup input. The RBI input pin is used with a storage capacitor or external supply to provide backup potential to the internal RAM and registers while VCC is < V(POR).", 2 VCC (power) "Supply voltage", 3 VSS (power) "Ground", 4 HDQ (io) "Single-wire HDQ interface. HDQ is a single-wire serial communications interface port. This bidirectional input/output communicates the register information to the host.", 5 BAT (in) "Battery voltage sense input. This pin is used for sensing and measuring the battery voltage.", 6 SRN (in) "Current sense input 2. The bq26221 interprets charge and discharge activity by monitoring and integrating the voltage drop, VSR, across pins SRP and SRN. The SRN input connects to the sense resistor and the negative terminal (See Datasheet)", 7 SRP (in) "Current sense input 1. The bq26221 interprets charge and discharge activity by monitoring and integrating the voltage drop, VSR, across pins SRP and SRN. The SRP input connects to the sense resistor and the negative terminal (See Datasheet)", 8 GPIO (io) "General-purpose input/output pin. GPIO is a general-purpose programmable input or output port whose state is controlled via the HDQ serial communications interface."

## BQ26221PWR
designator U?
FLASH-Based Precision Multi-Chemistry Charge / Discharge Counter with Voltage Measurement & HDQ / OMAP Comm, -20 to 70 degC, 8-pin TSSOP (PW), Green (RoHS & no Sb/Br); PartNumber: BQ26221PWR; Manufacturer: Texas Instruments; Lead Acid: Y; Over Voltage Protection: N; SubFamily: Battery Fuel Gauge; DatasheetVersion: SLUS607; PackageVersion: revG, Feb-2011; PackageReference: PW8; PackageDescription: 8-Pin Plastic Thin Small Outline Package 3 x 4.4 mm Body ,0.65 mm Pitch; Supplier 1: Digi-Key; Supplier Part Number 1: 296-17161-2-ND; Supplier Part Number 3: 296-17161-6-ND; Eco-Plan: Green (RoHS & no Sb/Br); Li-Ion: Y; Li-Polymer: Y; NiCd: Y; NiMH: Y; Mounting Technology: Surface Mount; Code_JEDEC: MO-153; ComponentLink1Description: Datasheet; ComponentLink1URL: http://www.ti.com/general/docs/lit/getliterature.tsp?genericPartNumber=BQ26221&fileType=pdf
footprint PW8_N (TSOP, 8-Leads, Body 3x4.4mm, Pitch 0.65mm, IPC Medium Density)
footprint PW8_L (TSOP, 8-Leads, Body 3x4.4mm, Pitch 0.65mm, IPC High Density)
footprint PW8_M (TSOP, 8-Leads, Body 3x4.4mm, Pitch 0.65mm, IPC Low Density)
pins: 1 RBI (in) "Register backup input. The RBI input pin is used with a storage capacitor or external supply to provide backup potential to the internal RAM and registers while VCC is < V(POR).", 2 VCC (power) "Supply voltage", 3 VSS (power) "Ground", 4 HDQ (io) "Single-wire HDQ interface. HDQ is a single-wire serial communications interface port. This bidirectional input/output communicates the register information to the host.", 5 BAT (in) "Battery voltage sense input. This pin is used for sensing and measuring the battery voltage.", 6 SRN (in) "Current sense input 2. The bq26221 interprets charge and discharge activity by monitoring and integrating the voltage drop, VSR, across pins SRP and SRN. The SRN input connects to the sense resistor and the negative terminal (See Datasheet)", 7 SRP (in) "Current sense input 1. The bq26221 interprets charge and discharge activity by monitoring and integrating the voltage drop, VSR, across pins SRP and SRN. The SRP input connects to the sense resistor and the negative terminal (See Datasheet)", 8 GPIO (io) "General-purpose input/output pin. GPIO is a general-purpose programmable input or output port whose state is controlled via the HDQ serial communications interface."

## BQ26221PWRG4
designator U?
FLASH-Based Precision Multi-Chemistry Charge / Discharge Counter with Voltage Measurement & HDQ / OMAP Comm, -20 to 70 degC, 8-pin TSSOP (PW), Green (RoHS & no Sb/Br); PartNumber: BQ26221PWRG4; Manufacturer: Texas Instruments; Lead Acid: Y; Over Voltage Protection: N; SubFamily: Battery Fuel Gauge; DatasheetVersion: SLUS607; PackageVersion: revG, Feb-2011; PackageReference: PW8; PackageDescription: 8-Pin Plastic Thin Small Outline Package 3 x 4.4 mm Body ,0.65 mm Pitch; Supplier 1: Digi-Key; Supplier Part Number 1: BQ26221PWRG4-ND; Eco-Plan: Green (RoHS & no Sb/Br); Li-Ion: Y; Li-Polymer: Y; NiCd: Y; NiMH: Y; Mounting Technology: Surface Mount; Code_JEDEC: MO-153; ComponentLink1Description: Datasheet; ComponentLink1URL: http://www.ti.com/general/docs/lit/getliterature.tsp?genericPartNumber=BQ26221&fileType=pdf
footprint PW8_N (TSOP, 8-Leads, Body 3x4.4mm, Pitch 0.65mm, IPC Medium Density)
footprint PW8_L (TSOP, 8-Leads, Body 3x4.4mm, Pitch 0.65mm, IPC High Density)
footprint PW8_M (TSOP, 8-Leads, Body 3x4.4mm, Pitch 0.65mm, IPC Low Density)
pins: 1 RBI (in) "Register backup input. The RBI input pin is used with a storage capacitor or external supply to provide backup potential to the internal RAM and registers while VCC is < V(POR).", 2 VCC (power) "Supply voltage", 3 VSS (power) "Ground", 4 HDQ (io) "Single-wire HDQ interface. HDQ is a single-wire serial communications interface port. This bidirectional input/output communicates the register information to the host.", 5 BAT (in) "Battery voltage sense input. This pin is used for sensing and measuring the battery voltage.", 6 SRN (in) "Current sense input 2. The bq26221 interprets charge and discharge activity by monitoring and integrating the voltage drop, VSR, across pins SRP and SRN. The SRN input connects to the sense resistor and the negative terminal (See Datasheet)", 7 SRP (in) "Current sense input 1. The bq26221 interprets charge and discharge activity by monitoring and integrating the voltage drop, VSR, across pins SRP and SRN. The SRP input connects to the sense resistor and the negative terminal (See Datasheet)", 8 GPIO (io) "General-purpose input/output pin. GPIO is a general-purpose programmable input or output port whose state is controlled via the HDQ serial communications interface."

## BQ26231PW
designator U?
Cost-Efficient Coulomb Counter for Battery Capacity Monitoring In Embedded Portable Applications, -20 to 70 degC, 8-pin TSSOP (PW), Green (RoHS & no Sb/Br); PartNumber: BQ26231PW; Manufacturer: Texas Instruments; Lead Acid: Y; Over Voltage Protection: N; SubFamily: Battery Fuel Gauge; DatasheetVersion: SLUS491; PackageVersion: revG, Feb-2011; PackageReference: PW8; PackageDescription: 8-Pin Plastic Thin Small Outline Package 3 x 4.4 mm Body ,0.65 mm Pitch; Supplier 1: Digi-Key; Supplier Part Number 1: 296-12269-5-ND; Supplier Part Number 3: 24M0809; Eco-Plan: Green (RoHS & no Sb/Br); Li-Ion: Y; Li-Polymer: Y; NiCd: Y; NiMH: Y; Mounting Technology: Surface Mount; Code_JEDEC: MO-153; ComponentLink1Description: Datasheet; ComponentLink1URL: http://www.ti.com/general/docs/lit/getliterature.tsp?genericPartNumber=BQ26231&fileType=pdf
footprint PW8_N (TSOP, 8-Leads, Body 3x4.4mm, Pitch 0.65mm, IPC Medium Density)
footprint PW8_L (TSOP, 8-Leads, Body 3x4.4mm, Pitch 0.65mm, IPC High Density)
footprint PW8_M (TSOP, 8-Leads, Body 3x4.4mm, Pitch 0.65mm, IPC Low Density)
pins: 1 NC "No connect. This pin must be left floating.", 2 VCC (power) "Supply voltage", 3 VSS (power) "Ground", 4 HDQ (io) "Single-wire HDQ interface", 5 RBI (power) "Register backup input", 6 SR2 (in) "Current sense input 1", 7 SR1 (in) "Current sense input 2", 8 NC "No connect. This pin must be left floating."

## BQ26231PWG4
designator U?
Cost-Efficient Coulomb Counter for Battery Capacity Monitoring In Embedded Portable Applications, -20 to 70 degC, 8-pin TSSOP (PW), Green (RoHS & no Sb/Br); PartNumber: BQ26231PWG4; Manufacturer: Texas Instruments; Lead Acid: Y; Over Voltage Protection: N; SubFamily: Battery Fuel Gauge; DatasheetVersion: SLUS491; PackageVersion: revG, Feb-2011; PackageReference: PW8; PackageDescription: 8-Pin Plastic Thin Small Outline Package 3 x 4.4 mm Body ,0.65 mm Pitch; Supplier 1: Digi-Key; Supplier Part Number 1: BQ26231PWG4-ND; Supplier Part Number 3: 595-BQ26231PWG4; Eco-Plan: Green (RoHS & no Sb/Br); Li-Ion: Y; Li-Polymer: Y; NiCd: Y; NiMH: Y; Mounting Technology: Surface Mount; Code_JEDEC: MO-153; ComponentLink1Description: Datasheet; ComponentLink1URL: http://www.ti.com/general/docs/lit/getliterature.tsp?genericPartNumber=BQ26231&fileType=pdf
footprint PW8_N (TSOP, 8-Leads, Body 3x4.4mm, Pitch 0.65mm, IPC Medium Density)
footprint PW8_L (TSOP, 8-Leads, Body 3x4.4mm, Pitch 0.65mm, IPC High Density)
footprint PW8_M (TSOP, 8-Leads, Body 3x4.4mm, Pitch 0.65mm, IPC Low Density)
pins: 1 NC "No connect. This pin must be left floating.", 2 VCC (power) "Supply voltage", 3 VSS (power) "Ground", 4 HDQ (io) "Single-wire HDQ interface", 5 RBI (power) "Register backup input", 6 SR2 (in) "Current sense input 1", 7 SR1 (in) "Current sense input 2", 8 NC "No connect. This pin must be left floating."

## BQ26231PWR
designator U?
Cost-Efficient Coulomb Counter for Battery Capacity Monitoring In Embedded Portable Applications, -20 to 70 degC, 8-pin TSSOP (PW), Green (RoHS & no Sb/Br); PartNumber: BQ26231PWR; Manufacturer: Texas Instruments; Lead Acid: Y; Over Voltage Protection: N; SubFamily: Battery Fuel Gauge; DatasheetVersion: SLUS491; PackageVersion: revG, Feb-2011; PackageReference: PW8; PackageDescription: 8-Pin Plastic Thin Small Outline Package 3 x 4.4 mm Body ,0.65 mm Pitch; Supplier 1: Digi-Key; Supplier Part Number 1: BQ26231PWR-ND; Supplier Part Number 3: 595-BQ26231PWR; Eco-Plan: Green (RoHS & no Sb/Br); Li-Ion: Y; Li-Polymer: Y; NiCd: Y; NiMH: Y; Mounting Technology: Surface Mount; Code_JEDEC: MO-153; ComponentLink1Description: Datasheet; ComponentLink1URL: http://www.ti.com/general/docs/lit/getliterature.tsp?genericPartNumber=BQ26231&fileType=pdf
footprint PW8_N (TSOP, 8-Leads, Body 3x4.4mm, Pitch 0.65mm, IPC Medium Density)
footprint PW8_L (TSOP, 8-Leads, Body 3x4.4mm, Pitch 0.65mm, IPC High Density)
footprint PW8_M (TSOP, 8-Leads, Body 3x4.4mm, Pitch 0.65mm, IPC Low Density)
pins: 1 NC "No connect. This pin must be left floating.", 2 VCC (power) "Supply voltage", 3 VSS (power) "Ground", 4 HDQ (io) "Single-wire HDQ interface", 5 RBI (power) "Register backup input", 6 SR2 (in) "Current sense input 1", 7 SR1 (in) "Current sense input 2", 8 NC "No connect. This pin must be left floating."

## BQ26231PWRG4
designator U?
Cost-Efficient Coulomb Counter for Battery Capacity Monitoring In Embedded Portable Applications, -20 to 70 degC, 8-pin TSSOP (PW), Green (RoHS & no Sb/Br); PartNumber: BQ26231PWRG4; Manufacturer: Texas Instruments; Lead Acid: Y; Over Voltage Protection: N; SubFamily: Battery Fuel Gauge; DatasheetVersion: SLUS491; PackageVersion: revG, Feb-2011; PackageReference: PW8; PackageDescription: 8-Pin Plastic Thin Small Outline Package 3 x 4.4 mm Body ,0.65 mm Pitch; Supplier 1: Digi-Key; Supplier Part Number 1: BQ26231PWRG4-ND; Supplier Part Number 3: 595-BQ26231PWRG4; Eco-Plan: Green (RoHS & no Sb/Br); Li-Ion: Y; Li-Polymer: Y; NiCd: Y; NiMH: Y; Mounting Technology: Surface Mount; Code_JEDEC: MO-153; ComponentLink1Description: Datasheet; ComponentLink1URL: http://www.ti.com/general/docs/lit/getliterature.tsp?genericPartNumber=BQ26231&fileType=pdf
footprint PW8_N (TSOP, 8-Leads, Body 3x4.4mm, Pitch 0.65mm, IPC Medium Density)
footprint PW8_L (TSOP, 8-Leads, Body 3x4.4mm, Pitch 0.65mm, IPC High Density)
footprint PW8_M (TSOP, 8-Leads, Body 3x4.4mm, Pitch 0.65mm, IPC Low Density)
pins: 1 NC "No connect. This pin must be left floating.", 2 VCC (power) "Supply voltage", 3 VSS (power) "Ground", 4 HDQ (io) "Single-wire HDQ interface", 5 RBI (power) "Register backup input", 6 SR2 (in) "Current sense input 1", 7 SR1 (in) "Current sense input 2", 8 NC "No connect. This pin must be left floating."

## BQ26500PW
designator U?
Complete Battery Fuel Gauge for One and Two Cell Li-Ion Applications, 0 to 70 degC, 8-pin TSSOP (PW), Green (RoHS & no Sb/Br); PartNumber: BQ26500PW; Manufacturer: Texas Instruments; Lead Acid: N; DatasheetVersion: SLUS567A; PackageVersion: revG, Feb-2011; PackageReference: PW8; PackageDescription: 8-Pin Plastic Thin Small Outline Package 3 x 4.4 mm Body ,0.65 mm Pitch; Supplier 1: Digi-Key; Supplier Part Number 1: 296-15848-5-ND; Supplier Part Number 3: 595-BQ26500PW; Eco-Plan: Green (RoHS & no Sb/Br); Li-Ion: N; Li-Polymer: N; NiCd: N; NiMH: N; Over Voltage Protection: N; SubFamily: Battery Fuel Gauge; Mounting Technology: Surface Mount; Code_JEDEC: MO-153; ComponentLink1Description: Datasheet; ComponentLink1URL: http://www.ti.com/general/docs/lit/getliterature.tsp?genericPartNumber=BQ26500&fileType=pdf
footprint PW8_N (TSOP, 8-Leads, Body 3x4.4mm, Pitch 0.65mm, IPC Medium Density)
footprint PW8_L (TSOP, 8-Leads, Body 3x4.4mm, Pitch 0.65mm, IPC High Density)
footprint PW8_M (TSOP, 8-Leads, Body 3x4.4mm, Pitch 0.65mm, IPC Low Density)
pins: 1 RBI (in) "Register back-up input", 2 VCC (power) "VCC supply input", 3 VSS (power) "Ground input", 4 HDQ (io) "Single-wire HDQ serial interface", 5 BAT (in) "Battery voltage sense input", 6 SRN (in) "Current sense input (negative)", 7 SRP (in) "Current sense input (positive)", 8 GPIO (io) "General-purpose input/output port"

## BQ26500PWG4
designator U?
Complete Battery Fuel Gauge for One and Two Cell Li-Ion Applications, 0 to 70 degC, 8-pin TSSOP (PW), Green (RoHS & no Sb/Br); PartNumber: BQ26500PWG4; Manufacturer: Texas Instruments; Lead Acid: N; DatasheetVersion: SLUS567A; PackageVersion: revG, Feb-2011; PackageReference: PW8; PackageDescription: 8-Pin Plastic Thin Small Outline Package 3 x 4.4 mm Body ,0.65 mm Pitch; Supplier 1: Digi-Key; Supplier Part Number 1: BQ26500PWG4-ND; Supplier Part Number 3: 595-BQ26500PWG4; Eco-Plan: Green (RoHS & no Sb/Br); Li-Ion: N; Li-Polymer: N; NiCd: N; NiMH: N; Over Voltage Protection: N; SubFamily: Battery Fuel Gauge; Mounting Technology: Surface Mount; Code_JEDEC: MO-153; ComponentLink1Description: Datasheet; ComponentLink1URL: http://www.ti.com/general/docs/lit/getliterature.tsp?genericPartNumber=BQ26500&fileType=pdf
footprint PW8_N (TSOP, 8-Leads, Body 3x4.4mm, Pitch 0.65mm, IPC Medium Density)
footprint PW8_L (TSOP, 8-Leads, Body 3x4.4mm, Pitch 0.65mm, IPC High Density)
footprint PW8_M (TSOP, 8-Leads, Body 3x4.4mm, Pitch 0.65mm, IPC Low Density)
pins: 1 RBI (in) "Register back-up input", 2 VCC (power) "VCC supply input", 3 VSS (power) "Ground input", 4 HDQ (io) "Single-wire HDQ serial interface", 5 BAT (in) "Battery voltage sense input", 6 SRN (in) "Current sense input (negative)", 7 SRP (in) "Current sense input (positive)", 8 GPIO (io) "General-purpose input/output port"

## BQ26500PWR
designator U?
Complete Battery Fuel Gauge for One and Two Cell Li-Ion Applications, 0 to 70 degC, 8-pin TSSOP (PW), Green (RoHS & no Sb/Br); PartNumber: BQ26500PWR; Manufacturer: Texas Instruments; Lead Acid: N; DatasheetVersion: SLUS567A; PackageVersion: revG, Feb-2011; PackageReference: PW8; PackageDescription: 8-Pin Plastic Thin Small Outline Package 3 x 4.4 mm Body ,0.65 mm Pitch; Supplier 1: Digi-Key; Supplier Part Number 1: 296-16775-2-ND; Supplier Part Number 3: 296-16775-6-ND; Eco-Plan: Green (RoHS & no Sb/Br); Li-Ion: N; Li-Polymer: N; NiCd: N; NiMH: N; Over Voltage Protection: N; SubFamily: Battery Fuel Gauge; Mounting Technology: Surface Mount; Code_JEDEC: MO-153; ComponentLink1Description: Datasheet; ComponentLink1URL: http://www.ti.com/general/docs/lit/getliterature.tsp?genericPartNumber=BQ26500&fileType=pdf
footprint PW8_N (TSOP, 8-Leads, Body 3x4.4mm, Pitch 0.65mm, IPC Medium Density)
footprint PW8_L (TSOP, 8-Leads, Body 3x4.4mm, Pitch 0.65mm, IPC High Density)
footprint PW8_M (TSOP, 8-Leads, Body 3x4.4mm, Pitch 0.65mm, IPC Low Density)
pins: 1 RBI (in) "Register back-up input", 2 VCC (power) "VCC supply input", 3 VSS (power) "Ground input", 4 HDQ (io) "Single-wire HDQ serial interface", 5 BAT (in) "Battery voltage sense input", 6 SRN (in) "Current sense input (negative)", 7 SRP (in) "Current sense input (positive)", 8 GPIO (io) "General-purpose input/output port"

## BQ26500PWRG4
designator U?
Complete Battery Fuel Gauge for One and Two Cell Li-Ion Applications, 0 to 70 degC, 8-pin TSSOP (PW), Green (RoHS & no Sb/Br); PartNumber: BQ26500PWRG4; Manufacturer: Texas Instruments; Lead Acid: N; DatasheetVersion: SLUS567A; PackageVersion: revG, Feb-2011; PackageReference: PW8; PackageDescription: 8-Pin Plastic Thin Small Outline Package 3 x 4.4 mm Body ,0.65 mm Pitch; Supplier 1: Digi-Key; Supplier Part Number 1: BQ26500PWRG4-ND; Supplier Part Number 3: 595-BQ26500PWRG4; Eco-Plan: Green (RoHS & no Sb/Br); Li-Ion: N; Li-Polymer: N; NiCd: N; NiMH: N; Over Voltage Protection: N; SubFamily: Battery Fuel Gauge; Mounting Technology: Surface Mount; Code_JEDEC: MO-153; ComponentLink1Description: Datasheet; ComponentLink1URL: http://www.ti.com/general/docs/lit/getliterature.tsp?genericPartNumber=BQ26500&fileType=pdf
footprint PW8_N (TSOP, 8-Leads, Body 3x4.4mm, Pitch 0.65mm, IPC Medium Density)
footprint PW8_L (TSOP, 8-Leads, Body 3x4.4mm, Pitch 0.65mm, IPC High Density)
footprint PW8_M (TSOP, 8-Leads, Body 3x4.4mm, Pitch 0.65mm, IPC Low Density)
pins: 1 RBI (in) "Register back-up input", 2 VCC (power) "VCC supply input", 3 VSS (power) "Ground input", 4 HDQ (io) "Single-wire HDQ serial interface", 5 BAT (in) "Battery voltage sense input", 6 SRN (in) "Current sense input (negative)", 7 SRP (in) "Current sense input (positive)", 8 GPIO (io) "General-purpose input/output port"

## BQ26501PW
designator U?
OMAP Compatible Fuel Gauge for 1 & 2 Cell Li-Ion, -20 to 70 degC, 8-pin TSSOP (PW), Green (RoHS & no Sb/Br); PartNumber: BQ26501PW; Manufacturer: Texas Instruments; Lead Acid: N; SubFamily: Battery Fuel Gauge; DatasheetVersion: SLUS586B; PackageVersion: revG, Feb-2011; PackageReference: PW8; PackageDescription: 8-Pin Plastic Thin Small Outline Package 3 x 4.4 mm Body ,0.65 mm Pitch; Supplier 1: Digi-Key; Supplier Part Number 1: 296-16925-5-ND; Supplier Part Number 3: 595-BQ26501PW; Eco-Plan: Green (RoHS & no Sb/Br); Li-Ion: N; Li-Polymer: N; NiCd: N; NiMH: N; Over Voltage Protection: N; Mounting Technology: Surface Mount; Code_JEDEC: MO-153; ComponentLink1Description: Datasheet; ComponentLink1URL: http://www.ti.com/general/docs/lit/getliterature.tsp?genericPartNumber=BQ26501&fileType=pdf
footprint PW8_N (TSOP, 8-Leads, Body 3x4.4mm, Pitch 0.65mm, IPC Medium Density)
footprint PW8_L (TSOP, 8-Leads, Body 3x4.4mm, Pitch 0.65mm, IPC High Density)
footprint PW8_M (TSOP, 8-Leads, Body 3x4.4mm, Pitch 0.65mm, IPC Low Density)
pins: 1 RBI (in) "Register back-up input", 2 VCC (power) "VCC supply input", 3 VSS (power) "Ground input", 4 HDQ (io) "Single-wire HDQ serial interface", 5 BAT (in) "Battery voltage sense input", 6 SRN (in) "Current sense input (negative)", 7 SRP (in) "Current sense input (positive)", 8 GPIO (io) "General-purpose input/output port"